# Altium schematic symbol library 13-Half-bridgeDriverIC.SchLib: 1 symbol
Pins are listed as number, name and electrical type; pins without a type are passive.

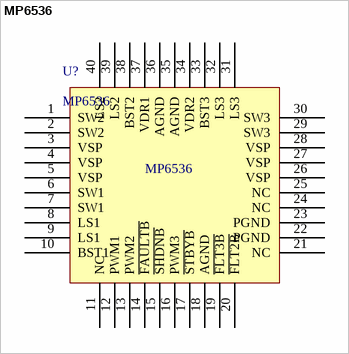
[diagram p0: symbol MP6536]

## MP6536
designator U?
3-channel half-bridge driver  IC intended to drive a 3-phase brushless DC  motor.; ComponentLink1Description: Manufacturer Link; ComponentLink1URL: http://www.monolithicpower.com/Products/Product-Detail/909/MotorDrivers&PositionSensors/IntegratedBLDCMotorDrivers/MP6536; ComponentLink2Description: Datasheet; ComponentLink2URL: http://www.monolithicpower.com/DesktopModules/DocumentManage/API/Document/GetDocument?id=4043; Publisher: TTA.Ltd
footprint QFN_40_A (QFN_40)
pins: 1 SW2, 2 SW2, 3 VSP, 4 VSP, 5 VSP, 6 SW1, 7 SW1, 8 LS1, 9 LS1, 10 BST1, 11 NC, 12 PWM1, 13 PWM2, 14 ~{FAULTB}, 15 ~{SHDNB}, 16 PWM3, 17 ~{STBYB}, 18 AGND, 19 ~{FLT3B}, 20 ~{FLT2B}, 21 NC, 22 PGND, 23 PGND, 24 NC, 25 NC, 26 VSP, 27 VSP, 28 VSP, 29 SW3, 30 SW3, 31 LS3, 32 LS3, 33 BST3, 34 VDR2, 35 AGND, 36 AGND, 37 VDR1, 38 BST2, 39 LS2, 40 LS2